# Altium schematic symbol library infrared.SchLib: 1 symbol
Pins are listed as number, name and electrical type; pins without a type are passive.

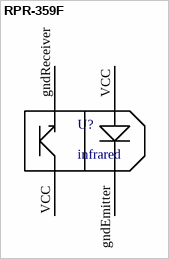
[diagram p0: symbol RPR-359F]

## RPR-359F
designator U?, comment infrared
footprint Infrared
pins: gndEmitter, gndReceiver, VCC, VCC